# EAGLE library part TPA6130 (library Custom_Library)
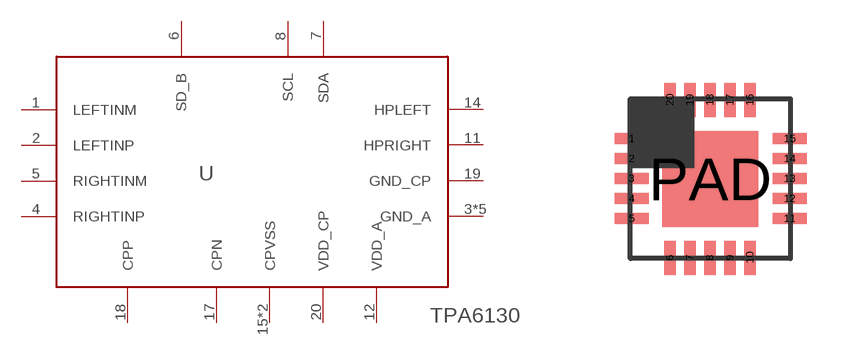
[diagram p12: symbol with the pads of QFN20; footprint QFN20]

Designator prefix U

## TPA6130  [QFN20]
1  LEFTINM
2  LEFTINP
3  GND_A
4  RIGHTINP
5  RIGHTINM
6  SD_B
7  SDA
8  SCL
9  GND_A
10  GND_A
11  HPRIGHT
12  VDD_A
13  GND_A
14  HPLEFT
15  CPVSS
16  CPVSS
17  CPN
18  CPP
19  GND_CP
20  VDD_CP
PAD  GND_A

## Footprint QFN20 (pad centres in mm)
smd 0.85 x 0.28: 1 -1.97,1; 2 -1.97,0.5; 3 -1.97,0; 4 -1.97,-0.5; 5 -1.97,-1; 11 1.98,-1; 12 1.98,-0.5; 13 1.98,0; 14 1.98,0.5; 15 1.98,1
smd 0.28 x 0.85: 6 -1.01,-1.98; 7 -0.51,-1.98; 8 -0.01,-1.98; 9 0.49,-1.98; 10 0.99,-1.98; 16 0.99,1.97; 17 0.49,1.97; 18 -0.01,1.97; 19 -0.51,1.97; 20 -1.01,1.97
smd 2.4 x 2.4: PAD 0,-0.01